# Altium schematic symbol library Regulator.SchLib: 23 symbols
Pins are listed as number, name and electrical type; pins without a type are passive.

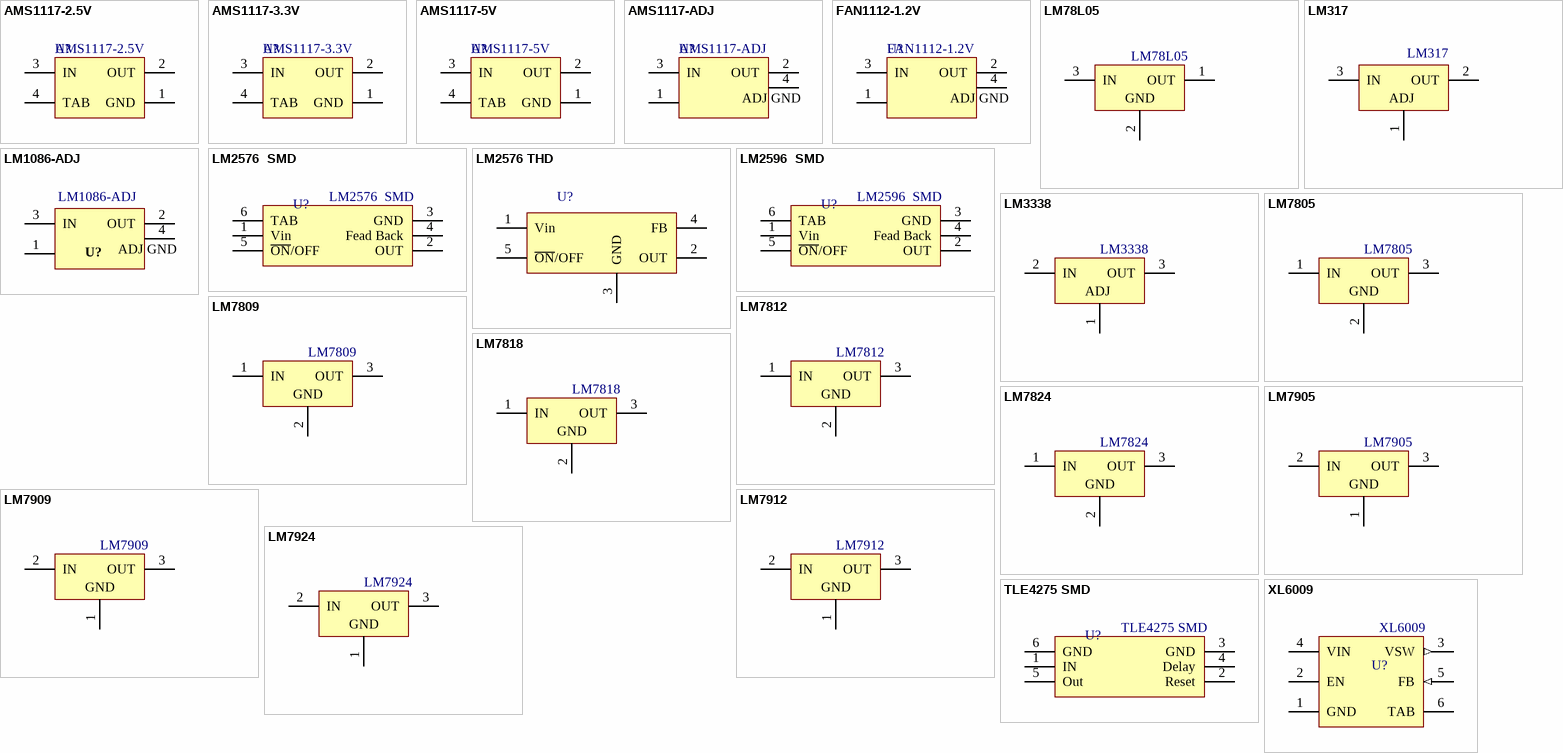
[diagram p0: symbols AMS1117-2.5V to XL6009]

## AMS1117-2.5V
designator U?  value AMS1117-2.5V
ComponentLinkp-URL: https://www.smartw.ir/; DatasheetVersion: 2022
footprint SOT223
pins: 1 GND (power), 2 OUT (power), 3 IN (power), 4 TAB (power)

## AMS1117-3.3V
designator U?  value AMS1117-3.3V
ComponentLinkp-URL: https://www.smartw.ir/; DatasheetVersion: 2022
footprint SOT223
pins: 1 GND (power), 2 OUT (power), 3 IN (power), 4 TAB (power)

## AMS1117-5V
designator U?  value AMS1117-5V
ComponentLinkp-URL: https://www.smartw.ir/; DatasheetVersion: 2022
footprint SOT223
pins: 1 GND (power), 2 OUT (power), 3 IN (power), 4 TAB (power)

## AMS1117-ADJ
designator U?  value AMS1117-ADJ
ComponentLinkp-URL: https://www.smartw.ir/; DatasheetVersion: 2022
footprint SOT223
pins: 1 ADJ, 2 OUT (power), 3 IN (power), 4
text: ADJ GND

## FAN1112-1.2V
designator U?  value FAN1112-1.2V
ComponentLinkp-URL: https://www.smartw.ir/; DatasheetVersion: 2022
footprint SOT223
pins: 1 ADJ, 2 OUT (power), 3 IN (power), 4
text: ADJ GND

## LM78L05
designator U?  value LM78L05
DatasheetVersion: 2022
footprint SOT89 Black
footprint SOT89 Red
pins: 1 OUT (power), 2 GND (power), 3 IN (power)

## LM317
designator U?  value LM317
DatasheetVersion: 2022
footprint TO03
footprint TO220
footprint TO220-2
footprint TO220-Right
footprint TO263
footprint TO252
pins: 1 ADJ (power), 2 OUT (power), 3 IN (power)

## LM1086-ADJ
designator U?  value LM1086-ADJ
DatasheetVersion: 2022
footprint TO254P-3N
pins: 1 ADJ, 2 OUT (power), 3 IN (power), 4
text: ADJ GND

## LM2576  SMD
designator U?  value LM2576  SMD
ComponentLinkp-URL: https://www.smartw.ir/; DatasheetVersion: 2022
footprint TO263S (D2-PAK, 6-Leads, Body 8.6x10.2mm, Pitch 1.7mm, Lead Span 14.1mm, IPC Medium Density)
footprint TO263-5
pins: 1 Vin (power), 2 OUT (power), 3 GND (power), 4 Fead Back (power), 5 ~{ON}/OFF (power), 6 TAB (power)

## LM2576 THD
designator U?
ComponentLinkp-URL: 2020; DatasheetVersion: 2022
footprint TO220-5 Right
footprint TO220-5
pins: 1 Vin (power), 2 OUT (power), 3 GND (power), 4 FB (power), 5 ~{ON}/OFF (power)

## LM2596  SMD
designator U?  value LM2596  SMD
ComponentLinkp-URL: https://www.smartw.ir/; DatasheetVersion: 2022
footprint TO263S (D2-PAK, 6-Leads, Body 8.6x10.2mm, Pitch 1.7mm, Lead Span 14.1mm, IPC Medium Density)
footprint TO263-5
pins: 1 Vin (power), 2 OUT (power), 3 GND (power), 4 Fead Back (power), 5 ~{ON}/OFF (power), 6 TAB (power)

## LM3338
designator U?  value LM3338
DatasheetVersion: 2022
footprint TO03
footprint TO220
footprint TO220-2
footprint TO220-Right
footprint TO263
footprint TO252
pins: 1 ADJ (power), 2 IN (power), 3 OUT (power)

## LM7805
designator U?  value LM7805
DatasheetVersion: 2022
footprint TO03
footprint TO220
footprint TO220-2
footprint TO220-Right
footprint TO263
footprint TO252
pins: 1 IN (power), 2 GND (power), 3 OUT (power)

## LM7809
designator U?  value LM7809
DatasheetVersion: 2022
footprint TO03
footprint TO220
footprint TO220-2
footprint TO220-Right
footprint TO263
footprint TO252
pins: 1 IN (power), 2 GND (power), 3 OUT (power)

## LM7812
designator U?  value LM7812
DatasheetVersion: 2022
footprint TO03
footprint TO220
footprint TO220-2
footprint TO220-Right
footprint TO263
footprint TO252
pins: 1 IN (power), 2 GND (power), 3 OUT (power)

## LM7818
designator U?  value LM7818
DatasheetVersion: 2022
footprint TO03
footprint TO220
footprint TO220-2
footprint TO220-Right
footprint TO263
footprint TO252
pins: 1 IN (power), 2 GND (power), 3 OUT (power)

## LM7824
designator U?  value LM7824
DatasheetVersion: 2022
footprint TO03
footprint TO220
footprint TO220-2
footprint TO220-Right
footprint TO263
footprint TO252
pins: 1 IN (power), 2 GND (power), 3 OUT (power)

## LM7905
designator U?  value LM7905
DatasheetVersion: 2022
footprint TO03
footprint TO220
footprint TO220-2
footprint TO220-Right
footprint TO263
footprint TO252
pins: 1 GND (power), 2 IN (power), 3 OUT (power)

## LM7909
designator U?  value LM7909
DatasheetVersion: 2022
footprint TO03
footprint TO220
footprint TO220-2
footprint TO220-Right
footprint TO263
footprint TO252
pins: 1 GND (power), 2 IN (power), 3 OUT (power)

## LM7912
designator U?  value LM7912
DatasheetVersion: 2022
footprint TO03
footprint TO220
footprint TO220-2
footprint TO220-Right
footprint TO263
footprint TO252
pins: 1 GND (power), 2 IN (power), 3 OUT (power)

## LM7924
designator U?  value LM7924
DatasheetVersion: 2022
footprint TO03
footprint TO220
footprint TO220-2
footprint TO220-Right
footprint TO263
footprint TO252
pins: 1 GND (power), 2 IN (power), 3 OUT (power)

## TLE4275 SMD
designator U?  value TLE4275 SMD
ComponentLinkp-URL: https://www.smartw.ir/; DatasheetVersion: 2022
footprint TO263S (D2-PAK, 6-Leads, Body 8.6x10.2mm, Pitch 1.7mm, Lead Span 14.1mm, IPC Medium Density)
footprint TO263-5
pins: 1 IN (power), 2 Reset (power), 3 GND (power), 4 Delay (power), 5 Out (power), 6 GND (power)

## XL6009
designator U?  value XL6009
DatasheetVersion: 2022
footprint TO263-5
pins: 1 GND (power), 2 EN, 3 VSW (out), 4 VIN (power), 5 FB (in), 6 TAB